# Altium footprint library hc_49_us.PcbLib: 1 footprints
Each footprint in its own frame and in the unit in brackets; x right, y up, seen from the top. Pads: shape width x height; smd on the part's side, far side on the other; paste and mask are expansions set on the pad; w line width, h text height; cw(c..) or ccw(c..) is an arc to the next point about the centre after c.
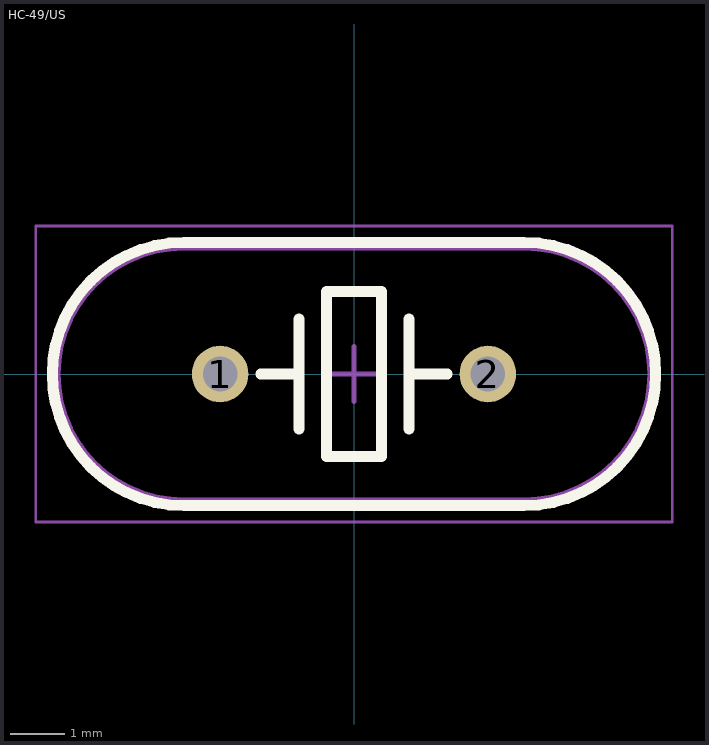
[diagram p0: the footprint, top view; thin cyan lines are the x and y axes]

## HC-49/US [mm] "HC-49/US Quartz Crystall"
height 3.5
pads (2):
  round 1.03 hole 0.63: 1(-2.44,0) 2(2.44,0)
Top Overlay:
  lines w0.2: -1.7,0 -1,0 ; -1,-1 -1,1 ; 1,-1 1,1 ; 1,0 1.7,0 ; -3.1,-2.4 cw(c-3.1,0) -3.1,2.4 3.1,2.4 cw(c3.1,0) 3.1,-2.4 -3.1,-2.4 ; -0.5,-1.5 -0.5,1.5 0.5,1.5 0.5,-1.5 -0.5,-1.5
Top Comment:
  text ".Comment" at 1,3 h1.2
Top Designator:
  text ".Designator" at -0.5,3 h1.2
Top Component Outline:
  lines w0.1: -3.1,-2.3 cw(c-3.1,0) -3.1,2.3 3.1,2.3 cw(c3.1,0) 3.1,-2.3 -3.1,-2.3
Top Courtyard (Mech15):
  lines w0.05: -5.8,-2.7 -5.8,2.7 5.8,2.7 5.8,-2.7 -5.8,-2.7
  lines w0.1: -0.5,0 0.5,0 ; 0,-0.5 0,0.5
3D body "HC-49US.STEP": height 3.53, standoff -2.67, extent -5.401,-2.3 5.399,2.3